# Altium schematic symbol library Units.SchLib: 8 symbols
Pins are listed as number, name and electrical type; pins without a type are passive.

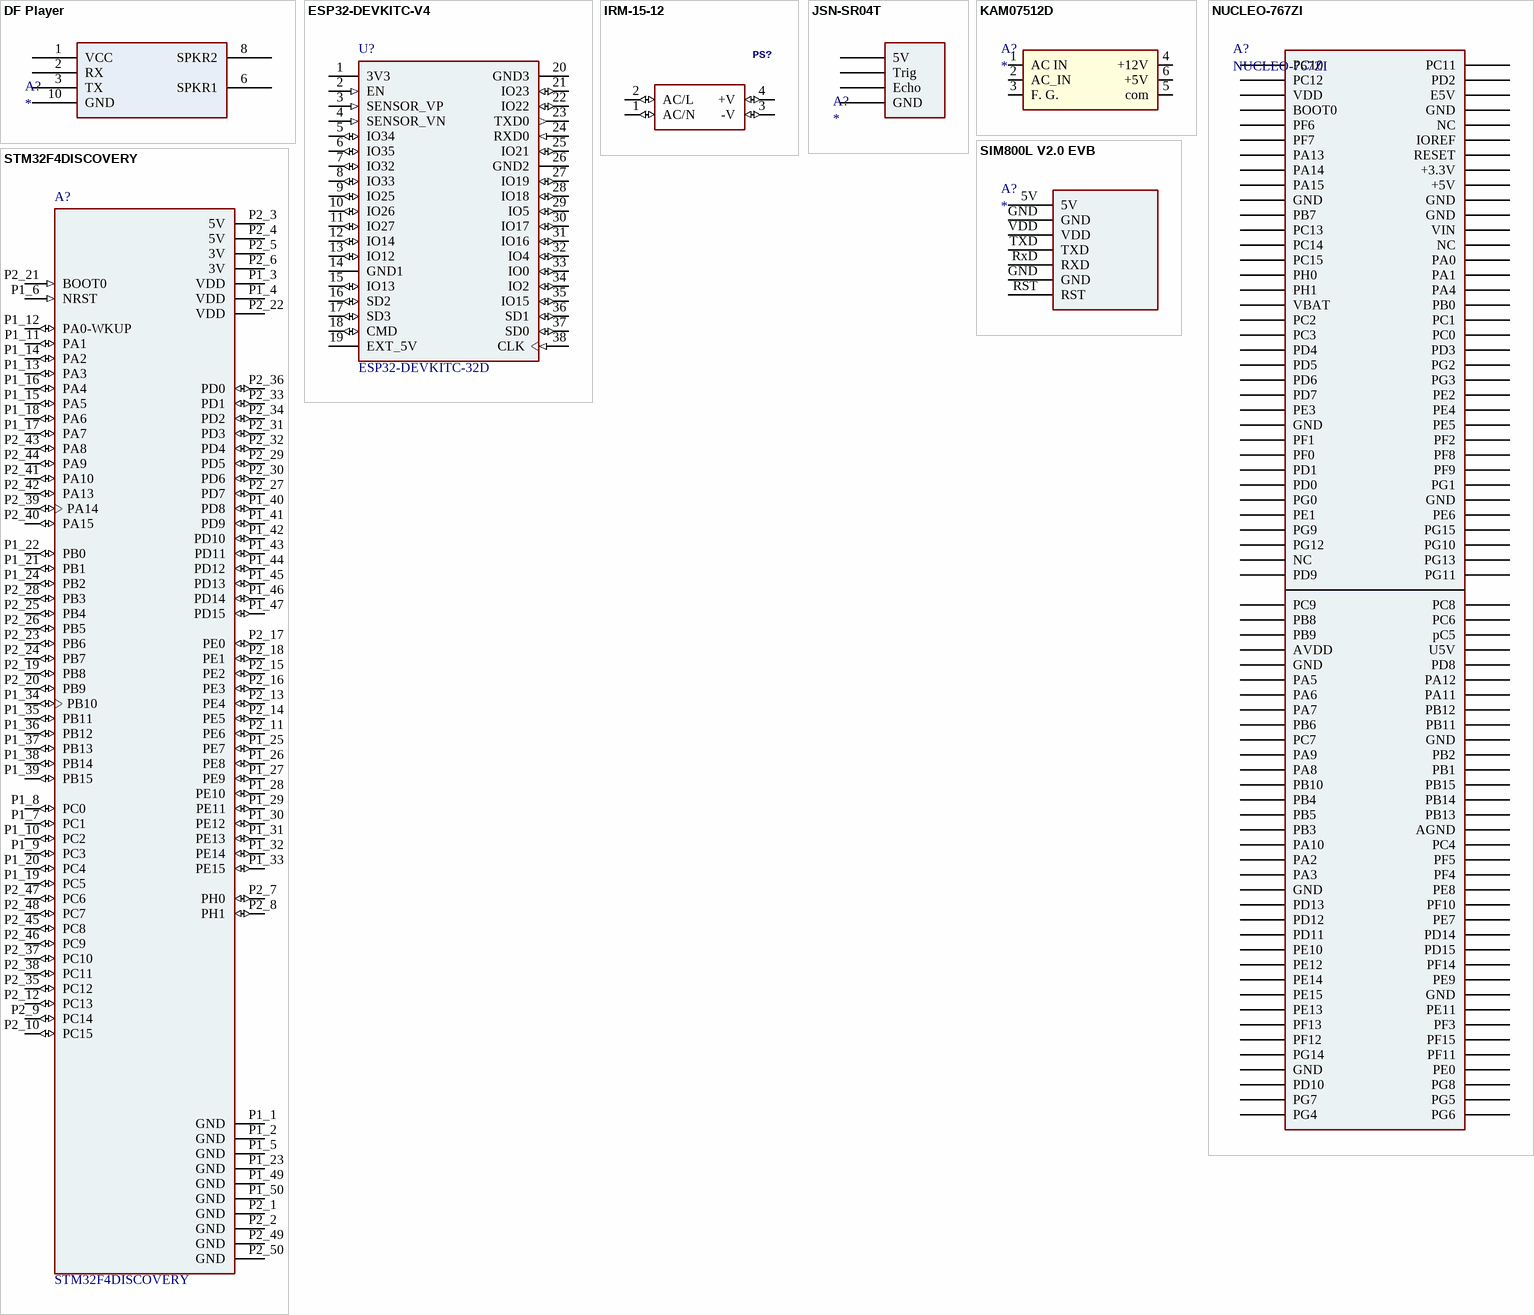
[diagram p0: symbols DF Player to STM32F4DISCOVERY]

## DF Player
designator A?
footprint DF PlAYER MIN (mp3 module)
pins: 1 VCC, 2 RX, 3 TX, 6 SPKR1, 8 SPKR2, 10 GND

## ESP32-DEVKITC-V4
designator U?, comment ESP32-DEVKITC-32D
Eval Board For Esp-Wroom-32; Manufacturer: Espressif Systems; PurtNumber: ESP32-DEVKITC-V4; Package: None; Price: None; Availability: Unavailable; SnapEDA_Link: https://www.snapeda.com/parts/ESP32-DEVKITC-32D/Espressif%20Systems/view-part/?ref=snap; Value: *
footprint ESP32-DEVKITC-V4 ESPRESSIF
pins: 1 3V3 (power), 2 EN (in), 3 SENSOR_VP (in), 4 SENSOR_VN (in), 5 IO34 (io), 6 IO35 (io), 7 IO32 (io), 8 IO33 (io), 9 IO25 (io), 10 IO26 (io), 11 IO27 (io), 12 IO14 (io), 13 IO12 (io), 14 GND1 (power), 15 IO13 (io), 16 SD2 (io), 17 SD3 (io), 18 CMD (io), 19 EXT_5V (power), 20 GND3 (power), 21 IO23 (io), 22 IO22 (io), 23 TXD0 (out), 24 RXD0 (in), 25 IO21 (io), 26 GND2 (power), 27 IO19 (io), 28 IO18 (io), 29 IO5 (io), 30 IO17 (io), 31 IO16 (io), 32 IO4 (io), 33 IO0 (io), 34 IO2 (io), 35 IO15 (io), 36 SD1 (io), 37 SD0 (io), 38 CLK (in)

## IRM-15-12
designator PS?
AC/DC Power Modules 12V 1.25A 15W 85-264Vin Encap PSSource:  Datasheet; Manufacturer_Name: Mean Well; GateName_1: G$1; SymbolName_1: IRM-15-12; LibraryName: IRM-15-12; DeviceSetName: IRM-15-12; Package: IRM-15-12; Mouser_Part_Number: 709-IRM15-12; Mouser_Price-Stock: https://www.mouser.com/Search/Refine.aspx?Keyword=709-IRM15-12; Manufacturer_Part_Number: IRM-15-12; Height: mm
footprint IRM-15 MEAN WELL
pins: 1 AC/N (io), 2 AC/L (io), 3 -V (io), 4 +V (io)

## JSN-SR04T
designator A?
Плата для парктроника; Manufacturer: JSN; PurtNumber: JSN-SR04T-2.0
footprint JSN-SR04T-2.0 JSN (Плата для парктроника)
pins: 5V, Echo, GND, Trig

## KAM07512D
designator A?
AC/DC преобразователь, 5В,0.6А;12В,0.3А,6.6Вт; Manufacturer: Chinfa Electronics; PuratNumber: KAM07512D; ComponentLink1Description: DS; ComponentLink1URL: https://static.chipdip.ru/lib/021/DOC001021696.pdf
footprint KAM07
pins: 1 AC IN, 2 AC_IN, 3 F. G., 4 +12V, 5 com, 6 +5V

## NUCLEO-767ZI
designator A?
Отадочная плата для контроллера STM32F767; Manufacturer: ST; PurtNumber: NUCLEO-767ZI
footprint NUCLEO-F767ZI ST
pins: CN11_1 PC10, CN11_2 PC11, CN11_3 PC12, CN11_4 PD2, CN11_5 VDD, CN11_6 E5V, CN11_7 BOOT0, CN11_8 GND, CN11_9 PF6, CN11_10 NC, CN11_11 PF7, CN11_12 IOREF, CN11_13 PA13, CN11_14 RESET, CN11_15 PA14, CN11_16 +3.3V, CN11_17 PA15, CN11_18 +5V, CN11_19 GND, CN11_20 GND, CN11_21 PB7, CN11_22 GND, CN11_23 PC13, CN11_24 VIN, CN11_25 PC14, CN11_26 NC, CN11_27 PC15, CN11_28 PA0, CN11_29 PH0, CN11_30 PA1, CN11_31 PH1, CN11_32 PA4, CN11_33 VBAT, CN11_34 PB0, CN11_35 PC2, CN11_36 PC1, CN11_37 PC3, CN11_38 PC0, CN11_39 PD4, CN11_40 PD3, CN11_41 PD5, CN11_42 PG2, CN11_43 PD6, CN11_44 PG3, CN11_45 PD7, CN11_46 PE2, CN11_47 PE3, CN11_48 PE4, CN11_49 GND, CN11_50 PE5, CN11_51 PF1, CN11_52 PF2, CN11_53 PF0, CN11_54 PF8, CN11_55 PD1, CN11_56 PF9, CN11_57 PD0, CN11_58 PG1, CN11_59 PG0, CN11_60 GND, CN11_61 PE1, CN11_62 PE6, CN11_63 PG9, CN11_64 PG15, CN11_65 PG12, CN11_66 PG10, CN11_67 NC, CN11_68 PG13, CN11_69 PD9, CN11_70 PG11, CN12_1 PC9, CN12_2 PC8, CN12_3 PB8, CN12_4 PC6, CN12_5 PB9, CN12_6 pC5, CN12_7 AVDD, CN12_8 U5V, CN12_9 GND, CN12_10 PD8, CN12_11 PA5, CN12_12 PA12, CN12_13 PA6, CN12_14 PA11, CN12_15 PA7, CN12_16 PB12, CN12_17 PB6, CN12_18 PB11, CN12_19 PC7, CN12_20 GND, CN12_21 PA9, CN12_22 PB2, CN12_23 PA8, CN12_24 PB1, CN12_25 PB10, CN12_26 PB15, CN12_27 PB4, CN12_28 PB14, CN12_29 PB5, CN12_30 PB13, CN12_31 PB3, CN12_32 AGND, CN12_33 PA10, CN12_34 PC4, CN12_35 PA2, CN12_36 PF5, CN12_37 PA3, CN12_38 PF4, CN12_39 GND, CN12_40 PE8, CN12_41 PD13, CN12_42 PF10, CN12_43 PD12, CN12_44 PE7, CN12_45 PD11, CN12_46 PD14, CN12_47 PE10, CN12_48 PD15, CN12_49 PE12, CN12_50 PF14, CN12_51 PE14, CN12_52 PE9, CN12_53 PE15, CN12_54 GND, CN12_55 PE13, CN12_56 PE11, CN12_57 PF13, CN12_58 PF3, CN12_59 PF12, CN12_60 PF15, CN12_61 PG14, CN12_62 PF11, CN12_63 GND, CN12_64 PE0, CN12_65 PD10, CN12_66 PG8, CN12_67 PG7, CN12_68 PG5, CN12_69 PG4, CN12_70 PG6

## SIM800L V2.0 EVB
designator A?
GPS, GPRS module
footprint SIM800L EVB V2.0 (GPS JPSRS module)
pins: 5V, GND, GND, RST, RxD RXD, TXD, VDD

## STM32F4DISCOVERY
designator A?
Development kit: ARM ST; pin strips, pin header; No.of; PurtNumber: STM32F4-Discovery; Manufacturer: ST
footprint STM32F4DISCOVERY_ST
pins: P1_1 GND (power), P1_2 GND (power), P1_3 VDD (power), P1_4 VDD (power), P1_5 GND (power), P1_6 NRST (in), P1_7 PC1 (io), P1_8 PC0 (io), P1_9 PC3 (io), P1_10 PC2 (io), P1_11 PA1 (io), P1_12 PA0-WKUP (io), P1_13 PA3 (io), P1_14 PA2 (io), P1_15 PA5 (io), P1_16 PA4 (io), P1_17 PA7 (io), P1_18 PA6 (io), P1_19 PC5 (io), P1_20 PC4 (io), P1_21 PB1 (io), P1_22 PB0 (io), P1_23 GND (power), P1_24 PB2 (io), P1_25 PE7 (io), P1_26 PE8 (io), P1_27 PE9 (io), P1_28 PE10 (io), P1_29 PE11 (io), P1_30 PE12 (io), P1_31 PE13 (io), P1_32 PE14 (io), P1_33 PE15 (io), P1_34 PB10 (io), P1_35 PB11 (io), P1_36 PB12 (io), P1_37 PB13 (io), P1_38 PB14 (io), P1_39 PB15 (io), P1_40 PD8 (io), P1_41 PD9 (io), P1_42 PD10 (io), P1_43 PD11 (io), P1_44 PD12 (io), P1_45 PD13 (io), P1_46 PD14 (io), P1_47 PD15 (io), P1_49 GND (power), P1_50 GND (power), P2_1 GND (power), P2_2 GND (power), P2_3 5V (power), P2_4 5V (power), P2_5 3V (power), P2_6 3V (power), P2_7 PH0 (io), P2_8 PH1 (io), P2_9 PC14 (io), P2_10 PC15 (io), P2_11 PE6 (io), P2_12 PC13 (io), P2_13 PE4 (io), P2_14 PE5 (io), P2_15 PE2 (io), P2_16 PE3 (io), P2_17 PE0 (io), P2_18 PE1 (io), P2_19 PB8 (io), P2_20 PB9 (io), P2_21 BOOT0 (in), P2_22 VDD (power), P2_23 PB6 (io), P2_24 PB7 (io), P2_25 PB4 (io), P2_26 PB5 (io), P2_27 PD7 (io), P2_28 PB3 (io), P2_29 PD5 (io), P2_30 PD6 (io), P2_31 PD3 (io), P2_32 PD4 (io), P2_33 PD1 (io), P2_34 PD2 (io), P2_35 PC12 (io), P2_36 PD0 (io), P2_37 PC10 (io), P2_38 PC11 (io), P2_39 PA14 (io), P2_40 PA15 (io), P2_41 PA10 (io), P2_42 PA13 (io), P2_43 PA8 (io), P2_44 PA9 (io), P2_45 PC8 (io), P2_46 PC9 (io), P2_47 PC6 (io), P2_48 PC7 (io), P2_49 GND (power), P2_50 GND (power)